# Altium footprint library Temp_Sensor_Pcb.PcbLib: 1 footprints
Each footprint in its own frame and in the unit in brackets; x right, y up, seen from the top. Pads: shape width x height; smd on the part's side, far side on the other; paste and mask are expansions set on the pad; w line width, h text height; cw(c..) or ccw(c..) is an arc to the next point about the centre after c.
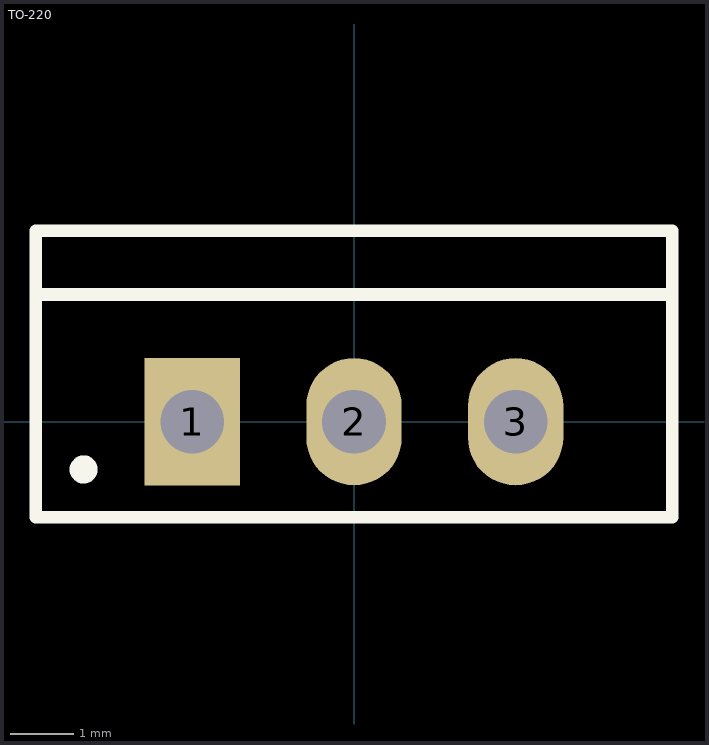
[diagram p0: the footprint, top view; thin cyan lines are the x and y axes]

## TO-220 [mm]
pads (3):
  rect 1.5x2 hole 1: 1(-2.54,0)
  oval 1.5x2 hole 1: 2(0,0) 3(2.54,0)
Top Overlay:
  circle w0.3: c-4.25,-0.75 r0.071
  lines w0.2: -5,2 5,2 ; -5,-1.5 5,-1.5 5,0 5,3 4,3 -3.5,3 -5,3 -5,0 -5,-1.5
3D body "TO-220HS.step": height 17.73, standoff -4.62, extent -5.08,-1.524 5.08,3.048